# Altium integrated library ASPI-1367-100M-T.IntLib: 1 symbol
Pins are listed as number, name and electrical type; pins without a type are passive.

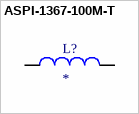
[diagram p0: symbol ASPI-1367-100M-T]

## ASPI-1367-100M-T
designator L?
10ÂµH Shielded Wirewound Inductor 10A 18.5mOhm Max Nonstandard; MF: Abracon LLC; MP: ASPI-1367-100M-T; Value: *; Package: Nonstandard Abracon LLC; Purchase-URL: https://pricing.snapeda.com/search/part/ASPI-1367-100M-T/?ref=eda; Price: None; SnapEDA_Link: https://www.snapeda.com/parts/ASPI-1367-100M-T/Abracon%20LLC/view-part/1614475/?ref=snap; Check_prices: https://www.snapeda.com/parts/ASPI-1367-100M-T/Abracon%20LLC/view-part/1614475/?ref=eda; Availability: Warning
footprint ASPI-1367-100M-T
pins: P$1 (io), P$2 (io)